# Altium schematic symbol library CN_3P.SchLib: 1 symbol
Pins are listed as number, name and electrical type; pins without a type are passive.

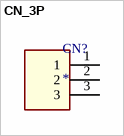
[diagram p0: symbol CN_3P]

## CN_3P
designator CN?
pins: 1, 2, 3